# EAGLE library part 71-12SP-1DS (library pswitch40)
Grayhill 71 Series, 12 Pos, 1 Pole, 1 Deck
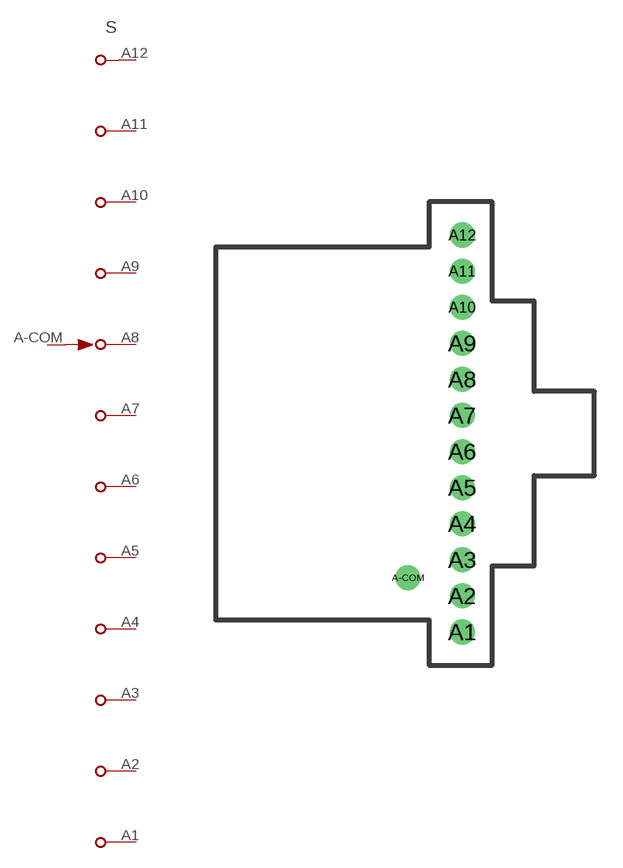
[diagram p14: symbol with the pads of 71-12-1D-1C; footprint 71-12-1D-1C]

Designator prefix S

## 71-12SP-1DS  [71-12-1D-1C]
A1  1  pas
A2  2  pas
A3  3  pas
A4  4  pas
A5  5  pas
A6  6  pas
A7  7  pas
A8  8  pas
A9  9  pas
A10  10  pas
A11  11  pas
A12  12  pas
A-COM  COM  pas

## Footprint 71-12-1D-1C (pad centres in mm)
Grayhill 71 Series
drill 0.813 round: A1 5.715,-10.477; A2 5.715,-8.572; A3 5.715,-6.668; A4 5.715,-4.763; A5 5.715,-2.857; A6 5.715,-0.953; A7 5.715,0.953; A8 5.715,2.857; A9 5.715,4.763; A10 5.715,6.668; A11 5.715,8.572; A12 5.715,10.477; A-COM 2.857,-7.62